# EAGLE library part KSZ8001 (library micrel)
Physical Layer Transceiver 1.8V, 3.3V 10/100BASE-T/TX/FX
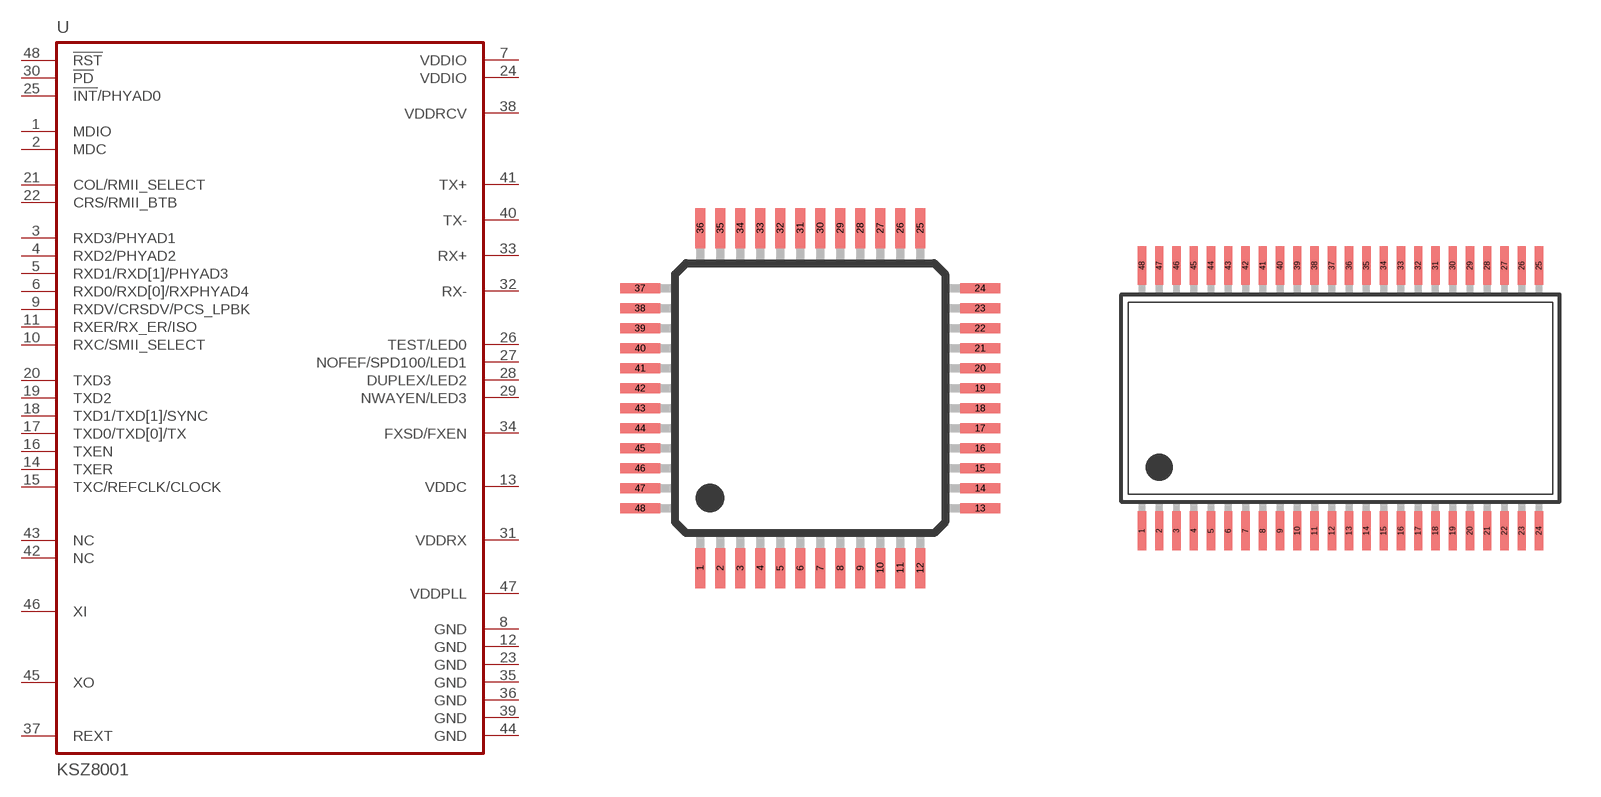
[diagram p7: symbol with the pads of LQFP48; footprints LQFP48, SSOP48-SM]

Designator prefix U

## KSZ8001L  [LQFP48]
1  MDIO
2  MDC  in
3  RXD3/PHYAD1
4  RXD2/PHYAD2
5  RXD1/RXD[1]/PHYAD3
6  RXD0/RXD[0]/RXPHYAD4
7  VDDIO  pwr
8  GND  pwr
9  RXDV/CRSDV/PCS_LPBK
10  RXC/SMII_SELECT  out
11  RXER/RX_ER/ISO
12  GND  pwr
13  VDDC  in
14  TXER  in
15  TXC/REFCLK/CLOCK
16  TXEN  in
17  TXD0/TXD[0]/TX  in
18  TXD1/TXD[1]/SYNC  in
19  TXD2  in
20  TXD3  in
21  COL/RMII_SELECT
22  CRS/RMII_BTB
23  GND  pwr
24  VDDIO  pwr
25  !INT!/PHYAD0  out
26  TEST/LED0  out
27  NOFEF/SPD100/LED1  out
28  DUPLEX/LED2  nc
29  NWAYEN/LED3  nc
30  !PD!  in
31  VDDRX  in
32  RX-  in
33  RX+  in
34  FXSD/FXEN
35  GND  pwr
36  GND  pwr
37  REXT  pas
38  VDDRCV  in
39  GND  pwr
40  TX-  out
41  TX+  out
42  NC  nc
43  NC  nc
44  GND  pwr
45  XO  out
46  XI  in
47  VDDPLL  out
48  !RST  in

## KSZ8001S  [SSOP48-SM]
Pads as for LQFP48

## Footprint LQFP48 (pad centres in mm)
LQFP48
smd 0.25 x 1: 1 -2.75,-4.25; 2 -2.25,-4.25; 3 -1.75,-4.25; 4 -1.25,-4.25; 5 -0.75,-4.25; 6 -0.25,-4.25; 7 0.25,-4.25; 8 0.75,-4.25; 9 1.25,-4.25; 10 1.75,-4.25; 11 2.25,-4.25; 12 2.75,-4.25; 25 2.75,4.25; 26 2.25,4.25; 27 1.75,4.25; 28 1.25,4.25; 29 0.75,4.25; 30 0.25,4.25; 31 -0.25,4.25; 32 -0.75,4.25; 33 -1.25,4.25; 34 -1.75,4.25; 35 -2.25,4.25; 36 -2.75,4.25
smd 1 x 0.25: 13 4.25,-2.75; 14 4.25,-2.25; 15 4.25,-1.75; 16 4.25,-1.25; 17 4.25,-0.75; 18 4.25,-0.25; 19 4.25,0.25; 20 4.25,0.75; 21 4.25,1.25; 22 4.25,1.75; 23 4.25,2.25; 24 4.25,2.75; 37 -4.25,2.75; 38 -4.25,2.25; 39 -4.25,1.75; 40 -4.25,1.25; 41 -4.25,0.75; 42 -4.25,0.25; 43 -4.25,-0.25; 44 -4.25,-0.75; 45 -4.25,-1.25; 46 -4.25,-1.75; 47 -4.25,-2.25; 48 -4.25,-2.75

## Footprint SSOP48-SM (pad centres in mm)
SSOP48 - Shrink Small Outline Package JEDC MO-118AA, pitch 0.635 mm (25 mil) body 7.6 x 10.5 mm
smd 0.305 x 1.422: 1 -6.985,-4.877; 2 -6.35,-4.877; 3 -5.715,-4.877; 4 -5.08,-4.877; 5 -4.445,-4.877; 6 -3.81,-4.877; 7 -3.175,-4.877; 8 -2.54,-4.877; 9 -1.905,-4.877; 10 -1.27,-4.877; 11 -0.635,-4.877; 12 0,-4.877; 13 0.635,-4.877; 14 1.27,-4.877; 15 1.905,-4.877; 16 2.54,-4.877; 17 3.175,-4.877; 18 3.81,-4.877; 19 4.445,-4.877; 20 5.08,-4.877; 21 5.715,-4.877; 22 6.35,-4.877; 23 6.985,-4.877; 24 7.62,-4.877; 25 7.62,4.877; 26 6.985,4.877; 27 6.35,4.877; 28 5.715,4.877; 29 5.08,4.877; 30 4.445,4.877; 31 3.81,4.877; 32 3.175,4.877; 33 2.54,4.877; 34 1.905,4.877; 35 1.27,4.877; 36 0.635,4.877; 37 0,4.877; 38 -0.635,4.877; 39 -1.27,4.877; 40 -1.905,4.877; 41 -2.54,4.877; 42 -3.175,4.877; 43 -3.81,4.877; 44 -4.445,4.877; 45 -5.08,4.877; 46 -5.715,4.877; 47 -6.35,4.877; 48 -6.985,4.877